# EAGLE library part MCP49X1 (library FiveVolt)
8/10/12-Bit Voltage Output Digital-to-Analog Converter with SPI Interface
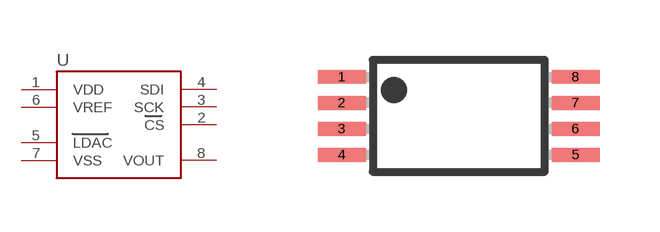
[diagram p4: symbol with the pads of TSSOP8; footprint TSSOP8]

Designator prefix -

## MCP49X1  [TSSOP8]
1  VDD
2  CS
3  SCK
4  SDI
5  LDAC
6  VREF
7  VSS
8  VOUT

## Footprint TSSOP8 (pad centres in mm)
smd 1.2 x 0.35: 1 -2.925,0.975; 2 -2.925,0.325; 3 -2.925,-0.325; 4 -2.925,-0.975; 5 2.925,-0.975; 6 2.925,-0.325; 7 2.925,0.325; 8 2.925,0.975